# EAGLE library part STM32F4V_100PIN_GENERIC (library ppgmeter)
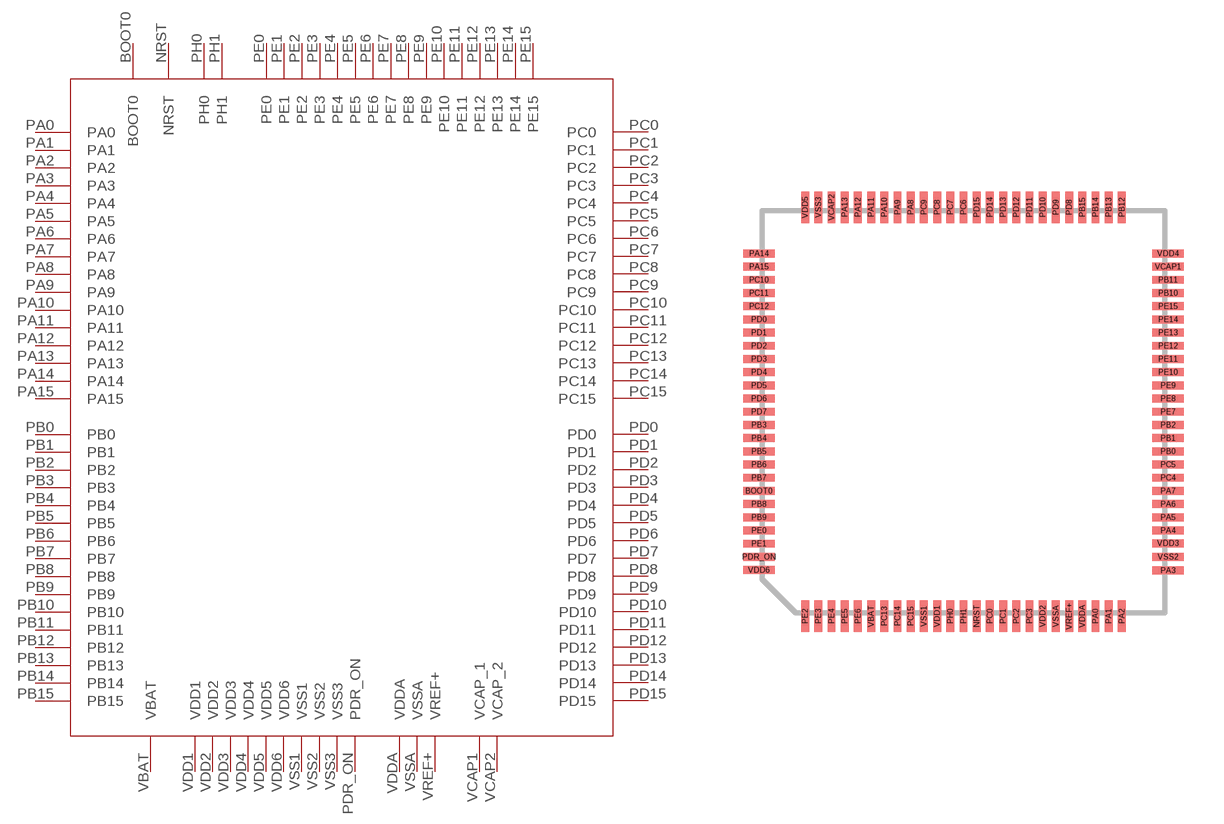
[diagram p2: symbol with the pads of LQFP100; footprint LQFP100]

Designator prefix -

## STM32F4V_100PIN_GENERIC  [LQFP100]
BOOT0  BOOT0
NRST  NRST
PA0  PA0
PA1  PA1
PA2  PA2
PA3  PA3
PA4  PA4
PA5  PA5
PA6  PA6
PA7  PA7
PA8  PA8
PA9  PA9
PA10  PA10
PA11  PA11
PA12  PA12
PA13  PA13
PA14  PA14
PA15  PA15
PB0  PB0
PB1  PB1
PB2  PB2
PB3  PB3
PB4  PB4
PB5  PB5
PB6  PB6
PB7  PB7
PB8  PB8
PB9  PB9
PB10  PB10
PB11  PB11
PB12  PB12
PB13  PB13
PB14  PB14
PB15  PB15
PC0  PC0
PC1  PC1
PC2  PC2
PC3  PC3
PC4  PC4
PC5  PC5
PC6  PC6
PC7  PC7
PC8  PC8
PC9  PC9
PC10  PC10
PC11  PC11
PC12  PC12
PC13  PC13
PC14  PC14
PC15  PC15
PD0  PD0
PD1  PD1
PD2  PD2
PD3  PD3
PD4  PD4
PD5  PD5
PD6  PD6
PD7  PD7
PD8  PD8
PD9  PD9
PD10  PD10
PD11  PD11
PD12  PD12
PD13  PD13
PD14  PD14
PD15  PD15
PDR_ON  PDR_ON
PE0  PE0
PE1  PE1
PE2  PE2
PE3  PE3
PE4  PE4
PE5  PE5
PE6  PE6
PE7  PE7
PE8  PE8
PE9  PE9
PE10  PE10
PE11  PE11
PE12  PE12
PE13  PE13
PE14  PE14
PE15  PE15
PH0  PH0
PH1  PH1
VBAT  VBAT
VCAP1  VCAP_1
VCAP2  VCAP_2
VDD1  VDD1
VDD2  VDD2
VDD3  VDD3
VDD4  VDD4
VDD5  VDD5
VDD6  VDD6
VDDA  VDDA
VREF+  VREF+
VSS1  VSS1
VSS2  VSS2
VSS3  VSS3
VSSA  VSSA

## Footprint LQFP100 (pad centres in mm)
smd 1.2 x 0.3: BOOT0 -7.75,-3; PA3 7.75,-6.016; PA4 7.75,-4.5; PA5 7.75,-4; PA6 7.75,-3.5; PA7 7.75,-3; PA14 -7.75,6; PA15 -7.75,5.5; PB0 7.75,-1.5; PB1 7.75,-1; PB2 7.75,-0.5; PB3 -7.75,-0.5; PB4 -7.75,-1; PB5 -7.75,-1.5; PB6 -7.75,-2; PB7 -7.75,-2.5; PB8 -7.75,-3.5; PB9 -7.75,-4; PB10 7.75,4.5; PB11 7.75,5; PC4 7.75,-2.5; PC5 7.75,-2; PC10 -7.75,5; PC11 -7.75,4.5; PC12 -7.75,4; PD0 -7.75,3.5; PD1 -7.75,3; PD2 -7.75,2.5; PD3 -7.75,2; PD4 -7.75,1.5; PD5 -7.75,1; PD6 -7.75,0.5; PD7 -7.75,0; PDR_ON -7.75,-5.5; PE0 -7.75,-4.5; PE1 -7.75,-5; PE7 7.75,0; PE8 7.75,0.5; PE9 7.75,1; PE10 7.75,1.5; PE11 7.75,2; PE12 7.75,2.5; PE13 7.75,3; PE14 7.75,3.5; PE15 7.75,4; VCAP1 7.75,5.5; VDD3 7.75,-4.984; VDD4 7.75,6; VDD6 -7.75,-6; VSS2 7.75,-5.5
smd 0.3 x 1.2: NRST 0.5,-7.75; PA0 5,-7.75; PA1 5.5,-7.75; PA2 6,-7.75; PA8 -2,7.75; PA9 -2.5,7.75; PA10 -3,7.75; PA11 -3.5,7.75; PA12 -4,7.75; PA13 -4.5,7.75; PB12 6,7.75; PB13 5.5,7.75; PB14 5,7.75; PB15 4.5,7.75; PC0 1,-7.75; PC1 1.5,-7.75; PC2 2,-7.75; PC3 2.5,-7.75; PC6 0,7.75; PC7 -0.5,7.75; PC8 -1,7.75; PC9 -1.5,7.75; PC13 -3,-7.75; PC14 -2.5,-7.75; PC15 -2,-7.75; PD8 4,7.75; PD9 3.5,7.75; PD10 3,7.75; PD11 2.5,7.75; PD12 2,7.75; PD13 1.5,7.75; PD14 1,7.75; PD15 0.5,7.75; PE2 -6,-7.75; PE3 -5.5,-7.75; PE4 -5,-7.75; PE5 -4.5,-7.75; PE6 -4,-7.75; PH0 -0.5,-7.75; PH1 0,-7.75; VBAT -3.5,-7.75; VCAP2 -5,7.75; VDD1 -1,-7.75; VDD2 3,-7.75; VDD5 -6,7.75; VDDA 4.5,-7.75; VREF+ 4,-7.75; VSS1 -1.5,-7.75; VSS3 -5.5,7.75; VSSA 3.5,-7.75